# Altium schematic symbol library TEST_POINT.SchLib: 1 symbol
Pins are listed as number, name and electrical type; pins without a type are passive.

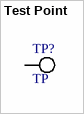
[diagram p0: symbol Test Point]

## Test Point
designator TP?, comment TP  (no BOM)
footprint TEST_POINT_750_SQ
footprint TEST_POINT_1500_SQ
pins: 1